# EAGLE library part ADAFRIEND (library pic-library)
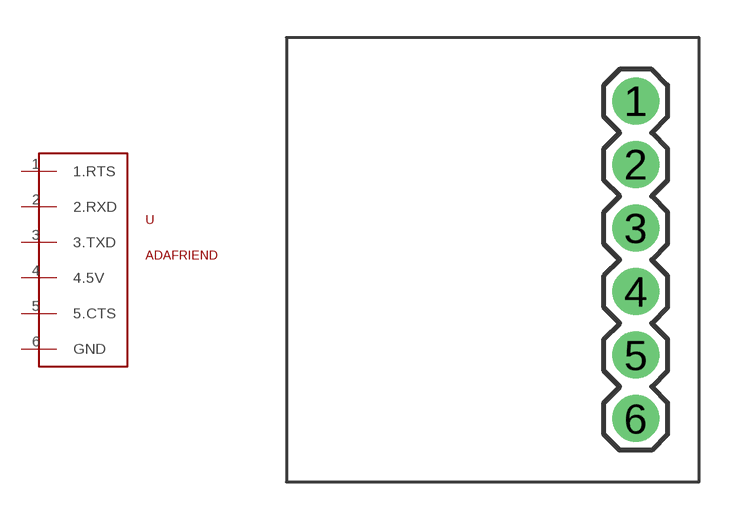
[diagram p9: symbol with the pads of ADAFRIEND; footprint ADAFRIEND]

Designator prefix -

## ADAFRIEND  [ADAFRIEND]
1  1.RTS
2  2.RXD
3  3.TXD
4  4.5V
5  5.CTS
6  GND

## Footprint ADAFRIEND (pad centres in mm)
drill 1.016 pad 1.88: 1 0,6.35; 2 0,3.81; 3 0,1.27; 4 0,-1.27; 5 0,-3.81; 6 0,-6.35